# Altium integrated library ALTIUM-WE-LHMI-rev18a.IntLib: 164 symbols (part 1 of 3)
Pins are listed as number, name and electrical type; pins without a type are passive.

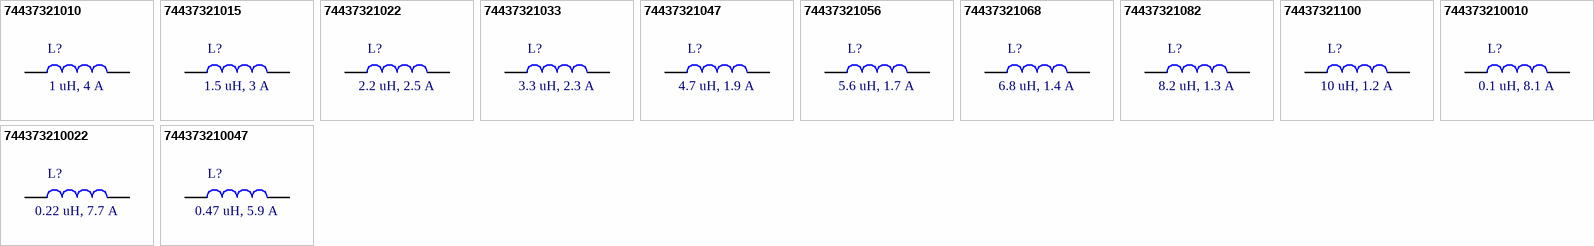
[diagram p0: symbols 74437321010 to 744373210047]

## 74437321010
designator L?, comment 1 uH, 4 A
SMT Power Inductor WE-LHMI, size 4012, 1 uH, 4 A; Part Number: 74437321010; Rated Current: 4 A; Inductance: 1 uH; DC Resistance max.: 47 mOhm; Saturation Current: 7.5 A; Self Resonant Frequency: 90 MHz; ComponentLink1Description: Manufacturer; ComponentLink1URL: http://www.we-online.de; ComponentLink2Description: Datasheet; ComponentLink2URL: https://katalog.we-online.com/pbs/datasheet/74437321010.pdf; Published Date: December 2018; Publisher: Wurth Elektronik; Size: 4012; Operating Temperature: -40 to +125 degC; Mounting Technology: SMT; Packaging: Tape and Reel
footprint WE-LHMI_4012
pins: 1, 2

## 74437321015
designator L?, comment 1.5 uH, 3 A
SMT Power Inductor WE-LHMI, size 4012, 1.5 uH, 3 A; Part Number: 74437321015; Rated Current: 3 A; Inductance: 1.5 uH; DC Resistance max.: 63.3 mOhm; Saturation Current: 4.4 A; Self Resonant Frequency: 60 MHz; ComponentLink1Description: Manufacturer; ComponentLink1URL: http://www.we-online.de; ComponentLink2Description: Datasheet; ComponentLink2URL: https://katalog.we-online.com/pbs/datasheet/74437321015.pdf; Published Date: December 2018; Publisher: Wurth Elektronik; Size: 4012; Operating Temperature: -40 to +125 degC; Mounting Technology: SMT; Packaging: Tape and Reel
footprint WE-LHMI_4012
pins: 1, 2

## 74437321022
designator L?, comment 2.2 uH, 2.5 A
SMT Power Inductor WE-LHMI, size 4012, 2.2 uH, 2.5 A; Part Number: 74437321022; Rated Current: 2.5 A; Inductance: 2.2 uH; DC Resistance max.: 80 mOhm; Saturation Current: 4.2 A; Self Resonant Frequency: 55 MHz; ComponentLink1Description: Manufacturer; ComponentLink1URL: http://www.we-online.de; ComponentLink2Description: Datasheet; ComponentLink2URL: https://katalog.we-online.com/pbs/datasheet/74437321022.pdf; Published Date: December 2018; Publisher: Wurth Elektronik; Size: 4012; Operating Temperature: -40 to +125 degC; Mounting Technology: SMT; Packaging: Tape and Reel
footprint WE-LHMI_4012
pins: 1, 2

## 74437321033
designator L?, comment 3.3 uH, 2.3 A
SMT Power Inductor WE-LHMI, size 4012, 3.3 uH, 2.3 A; Part Number: 74437321033; Rated Current: 2.3 A; Inductance: 3.3 uH; DC Resistance max.: 97 mOhm; Saturation Current: 3.9 A; Self Resonant Frequency: 40 MHz; ComponentLink1Description: Manufacturer; ComponentLink1URL: http://www.we-online.de; ComponentLink2Description: Datasheet; ComponentLink2URL: https://katalog.we-online.com/pbs/datasheet/74437321033.pdf; Published Date: December 2018; Publisher: Wurth Elektronik; Size: 4012; Operating Temperature: -40 to +125 degC; Mounting Technology: SMT; Packaging: Tape and Reel
footprint WE-LHMI_4012
pins: 1, 2

## 74437321047
designator L?, comment 4.7 uH, 1.9 A
SMT Power Inductor WE-LHMI, size 4012, 4.7 uH, 1.9 A; Part Number: 74437321047; Rated Current: 1.9 A; Inductance: 4.7 uH; DC Resistance max.: 145 mOhm; Saturation Current: 3.1 A; Self Resonant Frequency: 34 MHz; ComponentLink1Description: Manufacturer; ComponentLink1URL: http://www.we-online.de; ComponentLink2Description: Datasheet; ComponentLink2URL: https://katalog.we-online.com/pbs/datasheet/74437321047.pdf; Published Date: December 2018; Publisher: Wurth Elektronik; Size: 4012; Operating Temperature: -40 to +125 degC; Mounting Technology: SMT; Packaging: Tape and Reel
footprint WE-LHMI_4012
pins: 1, 2

## 74437321056
designator L?, comment 5.6 uH, 1.7 A
SMT Power Inductor WE-LHMI, size 4012, 5.6 uH, 1.7 A; Part Number: 74437321056; Rated Current: 1.7 A; Inductance: 5.6 uH; DC Resistance max.: 208 mOhm; Saturation Current: 2.7 A; Self Resonant Frequency: 28 MHz; ComponentLink1Description: Manufacturer; ComponentLink1URL: http://www.we-online.de; ComponentLink2Description: Datasheet; ComponentLink2URL: https://katalog.we-online.com/pbs/datasheet/74437321056.pdf; Published Date: December 2018; Publisher: Wurth Elektronik; Size: 4012; Operating Temperature: -40 to +125 degC; Mounting Technology: SMT; Packaging: Tape and Reel
footprint WE-LHMI_4012
pins: 1, 2

## 74437321068
designator L?, comment 6.8 uH, 1.4 A
SMT Power Inductor WE-LHMI, size 4012, 6.8 uH, 1.4 A; Part Number: 74437321068; Rated Current: 1.4 A; Inductance: 6.8 uH; DC Resistance max.: 360 mOhm; Saturation Current: 2.65 A; Self Resonant Frequency: 25 MHz; ComponentLink1Description: Manufacturer; ComponentLink1URL: http://www.we-online.de; ComponentLink2Description: Datasheet; ComponentLink2URL: https://katalog.we-online.com/pbs/datasheet/74437321068.pdf; Published Date: December 2018; Publisher: Wurth Elektronik; Size: 4012; Operating Temperature: -40 to +125 degC; Mounting Technology: SMT; Packaging: Tape and Reel
footprint WE-LHMI_4012
pins: 1, 2

## 74437321082
designator L?, comment 8.2 uH, 1.3 A
SMT Power Inductor WE-LHMI, size 4012, 8.2 uH, 1.3 A; Part Number: 74437321082; Rated Current: 1.3 A; Inductance: 8.2 uH; DC Resistance max.: 376 mOhm; Saturation Current: 2.4 A; Self Resonant Frequency: 24 MHz; ComponentLink1Description: Manufacturer; ComponentLink1URL: http://www.we-online.de; ComponentLink2Description: Datasheet; ComponentLink2URL: https://katalog.we-online.com/pbs/datasheet/74437321082.pdf; Published Date: December 2018; Publisher: Wurth Elektronik; Size: 4012; Operating Temperature: -40 to +125 degC; Mounting Technology: SMT; Packaging: Tape and Reel
footprint WE-LHMI_4012
pins: 1, 2

## 74437321100
designator L?, comment 10 uH, 1.2 A
SMT Power Inductor WE-LHMI, size 4012, 10 uH, 1.2 A; Part Number: 74437321100; Rated Current: 1.2 A; Inductance: 10 uH; DC Resistance max.: 463 mOhm; Saturation Current: 2.2 A; Self Resonant Frequency: 23 MHz; ComponentLink1Description: Manufacturer; ComponentLink1URL: http://www.we-online.de; ComponentLink2Description: Datasheet; ComponentLink2URL: https://katalog.we-online.com/pbs/datasheet/74437321100.pdf; Published Date: December 2018; Publisher: Wurth Elektronik; Size: 4012; Operating Temperature: -40 to +125 degC; Mounting Technology: SMT; Packaging: Tape and Reel
footprint WE-LHMI_4012
pins: 1, 2

## 744373210010
designator L?, comment 0.1 uH, 8.1 A
SMT Power Inductor WE-LHMI, size 4012, 0.1 uH, 8.1 A; Part Number: 744373210010; Rated Current: 8.1 A; Inductance: 0.1 uH; DC Resistance max.: 5.5 mOhm; Saturation Current: 24 A; Self Resonant Frequency: 365 MHz; ComponentLink1Description: Manufacturer; ComponentLink1URL: http://www.we-online.de; ComponentLink2Description: Datasheet; ComponentLink2URL: https://katalog.we-online.com/pbs/datasheet/744373210010.pdf; Published Date: December 2018; Publisher: Wurth Elektronik; Size: 4012; Operating Temperature: -40 to +125 degC; Mounting Technology: SMT; Packaging: Tape and Reel
footprint WE-LHMI_4012
pins: 1, 2

## 744373210022
designator L?, comment 0.22 uH, 7.7 A
SMT Power Inductor WE-LHMI, size 4012, 0.22 uH, 7.7 A; Part Number: 744373210022; Rated Current: 7.7 A; Inductance: 0.22 uH; DC Resistance max.: 8 mOhm; Saturation Current: 17 A; Self Resonant Frequency: 230 MHz; ComponentLink1Description: Manufacturer; ComponentLink1URL: http://www.we-online.de; ComponentLink2Description: Datasheet; ComponentLink2URL: https://katalog.we-online.com/pbs/datasheet/744373210022.pdf; Published Date: December 2018; Publisher: Wurth Elektronik; Size: 4012; Operating Temperature: -40 to +125 degC; Mounting Technology: SMT; Packaging: Tape and Reel
footprint WE-LHMI_4012
pins: 1, 2

## 744373210047
designator L?, comment 0.47 uH, 5.9 A
SMT Power Inductor WE-LHMI, size 4012, 0.47 uH, 5.9 A; Part Number: 744373210047; Rated Current: 5.9 A; Inductance: 0.47 uH; DC Resistance max.: 20 mOhm; Saturation Current: 9 A; Self Resonant Frequency: 120 MHz; ComponentLink1Description: Manufacturer; ComponentLink1URL: http://www.we-online.de; ComponentLink2Description: Datasheet; ComponentLink2URL: https://katalog.we-online.com/pbs/datasheet/744373210047.pdf; Published Date: December 2018; Publisher: Wurth Elektronik; Size: 4012; Operating Temperature: -40 to +125 degC; Mounting Technology: SMT; Packaging: Tape and Reel
footprint WE-LHMI_4012
pins: 1, 2


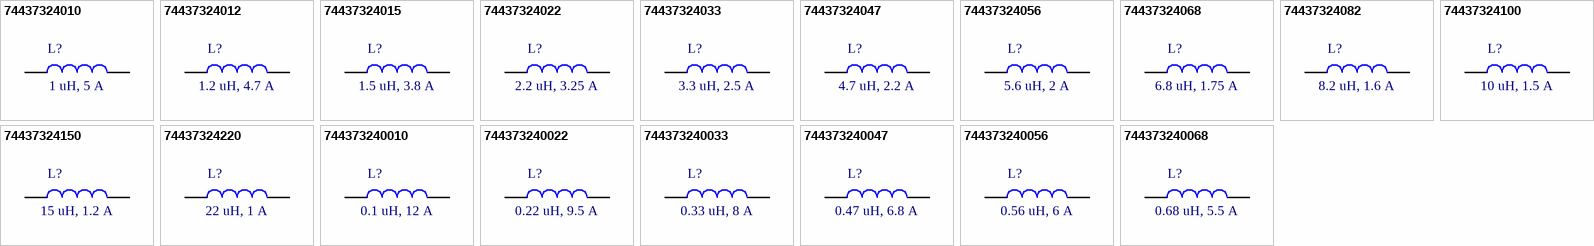
[diagram p1: symbols 74437324010 to 744373240068]

## 74437324010
designator L?, comment 1 uH, 5 A
SMT Power Inductor WE-LHMI, size 4020, 1 uH, 5 A; Part Number: 74437324010; Rated Current: 5 A; Inductance: 1 uH; DC Resistance max.: 27 mOhm; Saturation Current: 9 A; Self Resonant Frequency: 89 MHz; ComponentLink1Description: Manufacturer; ComponentLink1URL: http://www.we-online.de; ComponentLink2Description: Datasheet; ComponentLink2URL: https://katalog.we-online.com/pbs/datasheet/74437324010.pdf; Published Date: December 2018; Publisher: Wurth Elektronik; Size: 4020; Operating Temperature: -40 to +125 degC; Mounting Technology: SMT; Packaging: Tape and Reel
footprint WE-LHMI_4020
pins: 1, 2

## 74437324012
designator L?, comment 1.2 uH, 4.7 A
SMT Power Inductor WE-LHMI, size 4020, 1.2 uH, 4.7 A; Part Number: 74437324012; Rated Current: 4.7 A; Inductance: 1.2 uH; DC Resistance max.: 30 mOhm; Saturation Current: 8.5 A; Self Resonant Frequency: 71 MHz; ComponentLink1Description: Manufacturer; ComponentLink1URL: http://www.we-online.de; ComponentLink2Description: Datasheet; ComponentLink2URL: https://katalog.we-online.com/pbs/datasheet/74437324012.pdf; Published Date: December 2018; Publisher: Wurth Elektronik; Size: 4020; Operating Temperature: -40 to +125 degC; Mounting Technology: SMT; Packaging: Tape and Reel
footprint WE-LHMI_4020
pins: 1, 2

## 74437324015
designator L?, comment 1.5 uH, 3.8 A
SMT Power Inductor WE-LHMI, size 4020, 1.5 uH, 3.8 A; Part Number: 74437324015; Rated Current: 3.8 A; Inductance: 1.5 uH; DC Resistance max.: 42 mOhm; Saturation Current: 8 A; Self Resonant Frequency: 64 MHz; ComponentLink1Description: Manufacturer; ComponentLink1URL: http://www.we-online.de; ComponentLink2Description: Datasheet; ComponentLink2URL: https://katalog.we-online.com/pbs/datasheet/74437324015.pdf; Published Date: December 2018; Publisher: Wurth Elektronik; Size: 4020; Operating Temperature: -40 to +125 degC; Mounting Technology: SMT; Packaging: Tape and Reel
footprint WE-LHMI_4020
pins: 1, 2

## 74437324022
designator L?, comment 2.2 uH, 3.25 A
SMT Power Inductor WE-LHMI, size 4020, 2.2 uH, 3.25 A; Part Number: 74437324022; Rated Current: 3.25 A; Inductance: 2.2 uH; DC Resistance max.: 61 mOhm; Saturation Current: 6.5 A; Self Resonant Frequency: 49 MHz; ComponentLink1Description: Manufacturer; ComponentLink1URL: http://www.we-online.de; ComponentLink2Description: Datasheet; ComponentLink2URL: https://katalog.we-online.com/pbs/datasheet/74437324022.pdf; Published Date: December 2018; Publisher: Wurth Elektronik; Size: 4020; Operating Temperature: -40 to +125 degC; Mounting Technology: SMT; Packaging: Tape and Reel
footprint WE-LHMI_4020
pins: 1, 2

## 74437324033
designator L?, comment 3.3 uH, 2.5 A
SMT Power Inductor WE-LHMI, size 4020, 3.3 uH, 2.5 A; Part Number: 74437324033; Rated Current: 2.5 A; Inductance: 3.3 uH; DC Resistance max.: 76 mOhm; Saturation Current: 4.2 A; Self Resonant Frequency: 40 MHz; ComponentLink1Description: Manufacturer; ComponentLink1URL: http://www.we-online.de; ComponentLink2Description: Datasheet; ComponentLink2URL: https://katalog.we-online.com/pbs/datasheet/74437324033.pdf; Published Date: December 2018; Publisher: Wurth Elektronik; Size: 4020; Operating Temperature: -40 to +125 degC; Mounting Technology: SMT; Packaging: Tape and Reel
footprint WE-LHMI_4020
pins: 1, 2

## 74437324047
designator L?, comment 4.7 uH, 2.2 A
SMT Power Inductor WE-LHMI, size 4020, 4.7 uH, 2.2 A; Part Number: 74437324047; Rated Current: 2.2 A; Inductance: 4.7 uH; DC Resistance max.: 105 mOhm; Saturation Current: 4 A; Self Resonant Frequency: 31 MHz; ComponentLink1Description: Manufacturer; ComponentLink1URL: http://www.we-online.de; ComponentLink2Description: Datasheet; ComponentLink2URL: https://katalog.we-online.com/pbs/datasheet/74437324047.pdf; Published Date: December 2018; Publisher: Wurth Elektronik; Size: 4020; Operating Temperature: -40 to +125 degC; Mounting Technology: SMT; Packaging: Tape and Reel
footprint WE-LHMI_4020
pins: 1, 2

## 74437324056
designator L?, comment 5.6 uH, 2 A
SMT Power Inductor WE-LHMI, size 4020, 5.6 uH, 2 A; Part Number: 74437324056; Rated Current: 2 A; Inductance: 5.6 uH; DC Resistance max.: 125 mOhm; Saturation Current: 3.8 A; Self Resonant Frequency: 30 MHz; ComponentLink1Description: Manufacturer; ComponentLink1URL: http://www.we-online.de; ComponentLink2Description: Datasheet; ComponentLink2URL: https://katalog.we-online.com/pbs/datasheet/74437324056.pdf; Published Date: December 2018; Publisher: Wurth Elektronik; Size: 4020; Operating Temperature: -40 to +125 degC; Mounting Technology: SMT; Packaging: Tape and Reel
footprint WE-LHMI_4020
pins: 1, 2

## 74437324068
designator L?, comment 6.8 uH, 1.75 A
SMT Power Inductor WE-LHMI, size 4020, 6.8 uH, 1.75 A; Part Number: 74437324068; Rated Current: 1.75 A; Inductance: 6.8 uH; DC Resistance max.: 172 mOhm; Saturation Current: 3.5 A; Self Resonant Frequency: 29 MHz; ComponentLink1Description: Manufacturer; ComponentLink1URL: http://www.we-online.de; ComponentLink2Description: Datasheet; ComponentLink2URL: https://katalog.we-online.com/pbs/datasheet/74437324068.pdf; Published Date: December 2018; Publisher: Wurth Elektronik; Size: 4020; Operating Temperature: -40 to +125 degC; Mounting Technology: SMT; Packaging: Tape and Reel
footprint WE-LHMI_4020
pins: 1, 2

## 74437324082
designator L?, comment 8.2 uH, 1.6 A
SMT Power Inductor WE-LHMI, size 4020, 8.2 uH, 1.6 A; Part Number: 74437324082; Rated Current: 1.6 A; Inductance: 8.2 uH; DC Resistance max.: 180 mOhm; Saturation Current: 2.8 A; Self Resonant Frequency: 22 MHz; ComponentLink1Description: Manufacturer; ComponentLink1URL: http://www.we-online.de; ComponentLink2Description: Datasheet; ComponentLink2URL: https://katalog.we-online.com/pbs/datasheet/74437324082.pdf; Published Date: December 2018; Publisher: Wurth Elektronik; Size: 4020; Operating Temperature: -40 to +125 degC; Mounting Technology: SMT; Packaging: Tape and Reel
footprint WE-LHMI_4020
pins: 1, 2

## 74437324100
designator L?, comment 10 uH, 1.5 A
SMT Power Inductor WE-LHMI, size 4020, 10 uH, 1.5 A; Part Number: 74437324100; Rated Current: 1.5 A; Inductance: 10 uH; DC Resistance max.: 243 mOhm; Saturation Current: 2.4 A; Self Resonant Frequency: 23 MHz; ComponentLink1Description: Manufacturer; ComponentLink1URL: http://www.we-online.de; ComponentLink2Description: Datasheet; ComponentLink2URL: https://katalog.we-online.com/pbs/datasheet/74437324100.pdf; Published Date: December 2018; Publisher: Wurth Elektronik; Size: 4020; Operating Temperature: -40 to +125 degC; Mounting Technology: SMT; Packaging: Tape and Reel
footprint WE-LHMI_4020
pins: 1, 2

## 74437324150
designator L?, comment 15 uH, 1.2 A
SMT Power Inductor WE-LHMI, size 4020, 15 uH, 1.2 A; Part Number: 74437324150; Rated Current: 1.2 A; Inductance: 15 uH; DC Resistance max.: 374 mOhm; Saturation Current: 2.1 A; Self Resonant Frequency: 17 MHz; ComponentLink1Description: Manufacturer; ComponentLink1URL: http://www.we-online.de; ComponentLink2Description: Datasheet; ComponentLink2URL: https://katalog.we-online.com/pbs/datasheet/74437324150.pdf; Published Date: December 2018; Publisher: Wurth Elektronik; Size: 4020; Operating Temperature: -40 to +125 degC; Mounting Technology: SMT; Packaging: Tape and Reel
footprint WE-LHMI_4020
pins: 1, 2

## 74437324220
designator L?, comment 22 uH, 1 A
SMT Power Inductor WE-LHMI, size 4020, 22 uH, 1 A; Part Number: 74437324220; Rated Current: 1 A; Inductance: 22 uH; DC Resistance max.: 500 mOhm; Saturation Current: 2 A; Self Resonant Frequency: 14 MHz; ComponentLink1Description: Manufacturer; ComponentLink1URL: http://www.we-online.de; ComponentLink2Description: Datasheet; ComponentLink2URL: https://katalog.we-online.com/pbs/datasheet/74437324220.pdf; Published Date: December 2018; Publisher: Wurth Elektronik; Size: 4020; Operating Temperature: -40 to +125 degC; Mounting Technology: SMT; Packaging: Tape and Reel
footprint WE-LHMI_4020
pins: 1, 2

## 744373240010
designator L?, comment 0.1 uH, 12 A
SMT Power Inductor WE-LHMI, size 4020, 0.1 uH, 12 A; Part Number: 744373240010; Rated Current: 12 A; Inductance: 0.1 uH; DC Resistance max.: 4 mOhm; Saturation Current: 30 A; Self Resonant Frequency: 323 MHz; ComponentLink1Description: Manufacturer; ComponentLink1URL: http://www.we-online.de; ComponentLink2Description: Datasheet; ComponentLink2URL: https://katalog.we-online.com/pbs/datasheet/744373240010.pdf; Published Date: December 2018; Publisher: Wurth Elektronik; Size: 4020; Operating Temperature: -40 to +125 degC; Mounting Technology: SMT; Packaging: Tape and Reel
footprint WE-LHMI_4020
pins: 1, 2

## 744373240022
designator L?, comment 0.22 uH, 9.5 A
SMT Power Inductor WE-LHMI, size 4020, 0.22 uH, 9.5 A; Part Number: 744373240022; Rated Current: 9.5 A; Inductance: 0.22 uH; DC Resistance max.: 7.3 mOhm; Saturation Current: 17 A; Self Resonant Frequency: 195 MHz; ComponentLink1Description: Manufacturer; ComponentLink1URL: http://www.we-online.de; ComponentLink2Description: Datasheet; ComponentLink2URL: https://katalog.we-online.com/pbs/datasheet/744373240022.pdf; Published Date: December 2018; Publisher: Wurth Elektronik; Size: 4020; Operating Temperature: -40 to +125 degC; Mounting Technology: SMT; Packaging: Tape and Reel
footprint WE-LHMI_4020
pins: 1, 2

## 744373240033
designator L?, comment 0.33 uH, 8 A
SMT Power Inductor WE-LHMI, size 4020, 0.33 uH, 8 A; Part Number: 744373240033; Rated Current: 8 A; Inductance: 0.33 uH; DC Resistance max.: 8.6 mOhm; Saturation Current: 16.5 A; Self Resonant Frequency: 143 MHz; ComponentLink1Description: Manufacturer; ComponentLink1URL: http://www.we-online.de; ComponentLink2Description: Datasheet; ComponentLink2URL: https://katalog.we-online.com/pbs/datasheet/744373240033.pdf; Published Date: December 2018; Publisher: Wurth Elektronik; Size: 4020; Operating Temperature: -40 to +125 degC; Mounting Technology: SMT; Packaging: Tape and Reel
footprint WE-LHMI_4020
pins: 1, 2

## 744373240047
designator L?, comment 0.47 uH, 6.8 A
SMT Power Inductor WE-LHMI, size 4020, 0.47 uH, 6.8 A; Part Number: 744373240047; Rated Current: 6.8 A; Inductance: 0.47 uH; DC Resistance max.: 14 mOhm; Saturation Current: 14.5 A; Self Resonant Frequency: 122 MHz; ComponentLink1Description: Manufacturer; ComponentLink1URL: http://www.we-online.de; ComponentLink2Description: Datasheet; ComponentLink2URL: https://katalog.we-online.com/pbs/datasheet/744373240047.pdf; Published Date: December 2018; Publisher: Wurth Elektronik; Size: 4020; Operating Temperature: -40 to +125 degC; Mounting Technology: SMT; Packaging: Tape and Reel
footprint WE-LHMI_4020
pins: 1, 2

## 744373240056
designator L?, comment 0.56 uH, 6 A
SMT Power Inductor WE-LHMI, size 4020, 0.56 uH, 6 A; Part Number: 744373240056; Rated Current: 6 A; Inductance: 0.56 uH; DC Resistance max.: 16 mOhm; Saturation Current: 10.5 A; Self Resonant Frequency: 104 MHz; ComponentLink1Description: Manufacturer; ComponentLink1URL: http://www.we-online.de; ComponentLink2Description: Datasheet; ComponentLink2URL: https://katalog.we-online.com/pbs/datasheet/744373240056.pdf; Published Date: December 2018; Publisher: Wurth Elektronik; Size: 4020; Operating Temperature: -40 to +125 degC; Mounting Technology: SMT; Packaging: Tape and Reel
footprint WE-LHMI_4020
pins: 1, 2

## 744373240068
designator L?, comment 0.68 uH, 5.5 A
SMT Power Inductor WE-LHMI, size 4020, 0.68 uH, 5.5 A; Part Number: 744373240068; Rated Current: 5.5 A; Inductance: 0.68 uH; DC Resistance max.: 19 mOhm; Saturation Current: 10 A; Self Resonant Frequency: 90 MHz; ComponentLink1Description: Manufacturer; ComponentLink1URL: http://www.we-online.de; ComponentLink2Description: Datasheet; ComponentLink2URL: https://katalog.we-online.com/pbs/datasheet/744373240068.pdf; Published Date: December 2018; Publisher: Wurth Elektronik; Size: 4020; Operating Temperature: -40 to +125 degC; Mounting Technology: SMT; Packaging: Tape and Reel
footprint WE-LHMI_4020
pins: 1, 2


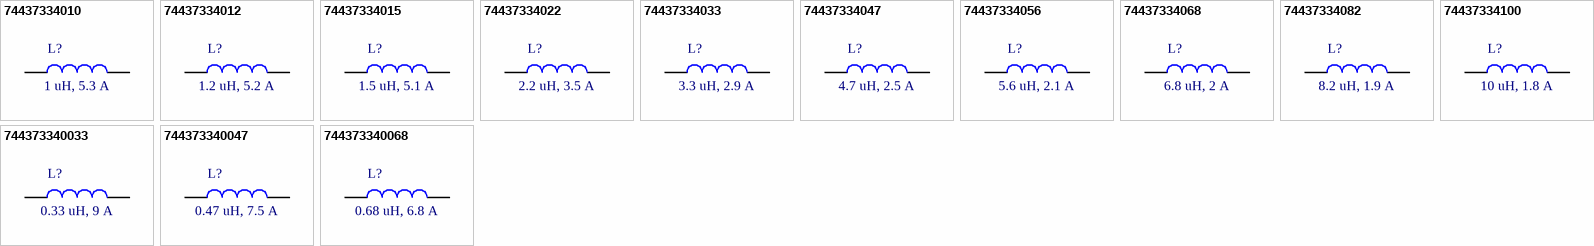
[diagram p2: symbols 74437334010 to 744373340068]

## 74437334010
designator L?, comment 1 uH, 5.3 A
SMT Power Inductor WE-LHMI, size 5020, 1 uH, 5.3 A; Part Number: 74437334010; Rated Current: 5.3 A; Inductance: 1 uH; DC Resistance max.: 20 mOhm; Saturation Current: 13.9 A; Self Resonant Frequency: 65 MHz; ComponentLink1Description: Manufacturer; ComponentLink1URL: http://www.we-online.de; ComponentLink2Description: Datasheet; ComponentLink2URL: https://katalog.we-online.com/pbs/datasheet/74437334010.pdf; Published Date: December 2018; Publisher: Wurth Elektronik; Size: 5020; Operating Temperature: -40 to +125 degC; Mounting Technology: SMT; Packaging: Tape and Reel
footprint WE-LHMI_5020
pins: 1, 2

## 74437334012
designator L?, comment 1.2 uH, 5.2 A
SMT Power Inductor WE-LHMI, size 5020, 1.2 uH, 5.2 A; Part Number: 74437334012; Rated Current: 5.2 A; Inductance: 1.2 uH; DC Resistance max.: 28 mOhm; Saturation Current: 11.3 A; Self Resonant Frequency: 60 MHz; ComponentLink1Description: Manufacturer; ComponentLink1URL: http://www.we-online.de; ComponentLink2Description: Datasheet; ComponentLink2URL: https://katalog.we-online.com/pbs/datasheet/74437334012.pdf; Published Date: December 2018; Publisher: Wurth Elektronik; Size: 5020; Operating Temperature: -40 to +125 degC; Mounting Technology: SMT; Packaging: Tape and Reel
footprint WE-LHMI_5020
pins: 1, 2

## 74437334015
designator L?, comment 1.5 uH, 5.1 A
SMT Power Inductor WE-LHMI, size 5020, 1.5 uH, 5.1 A; Part Number: 74437334015; Rated Current: 5.1 A; Inductance: 1.5 uH; DC Resistance max.: 30.5 mOhm; Saturation Current: 10 A; Self Resonant Frequency: 50 MHz; ComponentLink1Description: Manufacturer; ComponentLink1URL: http://www.we-online.de; ComponentLink2Description: Datasheet; ComponentLink2URL: https://katalog.we-online.com/pbs/datasheet/74437334015.pdf; Published Date: December 2018; Publisher: Wurth Elektronik; Size: 5020; Operating Temperature: -40 to +125 degC; Mounting Technology: SMT; Packaging: Tape and Reel
footprint WE-LHMI_5020
pins: 1, 2

## 74437334022
designator L?, comment 2.2 uH, 3.5 A
SMT Power Inductor WE-LHMI, size 5020, 2.2 uH, 3.5 A; Part Number: 74437334022; Rated Current: 3.5 A; Inductance: 2.2 uH; DC Resistance max.: 50 mOhm; Saturation Current: 9.4 A; Self Resonant Frequency: 46 MHz; ComponentLink1Description: Manufacturer; ComponentLink1URL: http://www.we-online.de; ComponentLink2Description: Datasheet; ComponentLink2URL: https://katalog.we-online.com/pbs/datasheet/74437334022.pdf; Published Date: December 2018; Publisher: Wurth Elektronik; Size: 5020; Operating Temperature: -40 to +125 degC; Mounting Technology: SMT; Packaging: Tape and Reel
footprint WE-LHMI_5020
pins: 1, 2

## 74437334033
designator L?, comment 3.3 uH, 2.9 A
SMT Power Inductor WE-LHMI, size 5020, 3.3 uH, 2.9 A; Part Number: 74437334033; Rated Current: 2.9 A; Inductance: 3.3 uH; DC Resistance max.: 76 mOhm; Saturation Current: 7.7 A; Self Resonant Frequency: 35 MHz; ComponentLink1Description: Manufacturer; ComponentLink1URL: http://www.we-online.de; ComponentLink2Description: Datasheet; ComponentLink2URL: https://katalog.we-online.com/pbs/datasheet/74437334033.pdf; Published Date: December 2018; Publisher: Wurth Elektronik; Size: 5020; Operating Temperature: -40 to +125 degC; Mounting Technology: SMT; Packaging: Tape and Reel
footprint WE-LHMI_5020
pins: 1, 2

## 74437334047
designator L?, comment 4.7 uH, 2.5 A
SMT Power Inductor WE-LHMI, size 5020, 4.7 uH, 2.5 A; Part Number: 74437334047; Rated Current: 2.5 A; Inductance: 4.7 uH; DC Resistance max.: 116 mOhm; Saturation Current: 6 A; Self Resonant Frequency: 27 MHz; ComponentLink1Description: Manufacturer; ComponentLink1URL: http://www.we-online.de; ComponentLink2Description: Datasheet; ComponentLink2URL: https://katalog.we-online.com/pbs/datasheet/74437334047.pdf; Published Date: December 2018; Publisher: Wurth Elektronik; Size: 5020; Operating Temperature: -40 to +125 degC; Mounting Technology: SMT; Packaging: Tape and Reel
footprint WE-LHMI_5020
pins: 1, 2

## 74437334056
designator L?, comment 5.6 uH, 2.1 A
SMT Power Inductor WE-LHMI, size 5020, 5.6 uH, 2.1 A; Part Number: 74437334056; Rated Current: 2.1 A; Inductance: 5.6 uH; DC Resistance max.: 122 mOhm; Saturation Current: 5.5 A; Self Resonant Frequency: 21 MHz; ComponentLink1Description: Manufacturer; ComponentLink1URL: http://www.we-online.de; ComponentLink2Description: Datasheet; ComponentLink2URL: https://katalog.we-online.com/pbs/datasheet/74437334056.pdf; Published Date: December 2018; Publisher: Wurth Elektronik; Size: 5020; Operating Temperature: -40 to +125 degC; Mounting Technology: SMT; Packaging: Tape and Reel
footprint WE-LHMI_5020
pins: 1, 2

## 74437334068
designator L?, comment 6.8 uH, 2 A
SMT Power Inductor WE-LHMI, size 5020, 6.8 uH, 2 A; Part Number: 74437334068; Rated Current: 2 A; Inductance: 6.8 uH; DC Resistance max.: 150 mOhm; Saturation Current: 4.6 A; Self Resonant Frequency: 20.5 MHz; ComponentLink1Description: Manufacturer; ComponentLink1URL: http://www.we-online.de; ComponentLink2Description: Datasheet; ComponentLink2URL: https://katalog.we-online.com/pbs/datasheet/74437334068.pdf; Published Date: December 2018; Publisher: Wurth Elektronik; Size: 5020; Operating Temperature: -40 to +125 degC; Mounting Technology: SMT; Packaging: Tape and Reel
footprint WE-LHMI_5020
pins: 1, 2

## 74437334082
designator L?, comment 8.2 uH, 1.9 A
SMT Power Inductor WE-LHMI, size 5020, 8.2 uH, 1.9 A; Part Number: 74437334082; Rated Current: 1.9 A; Inductance: 8.2 uH; DC Resistance max.: 171 mOhm; Saturation Current: 4.5 A; Self Resonant Frequency: 20 MHz; ComponentLink1Description: Manufacturer; ComponentLink1URL: http://www.we-online.de; ComponentLink2Description: Datasheet; ComponentLink2URL: https://katalog.we-online.com/pbs/datasheet/74437334082.pdf; Published Date: December 2018; Publisher: Wurth Elektronik; Size: 5020; Operating Temperature: -40 to +125 degC; Mounting Technology: SMT; Packaging: Tape and Reel
footprint WE-LHMI_5020
pins: 1, 2

## 74437334100
designator L?, comment 10 uH, 1.8 A
SMT Power Inductor WE-LHMI, size 5020, 10 uH, 1.8 A; Part Number: 74437334100; Rated Current: 1.8 A; Inductance: 10 uH; DC Resistance max.: 199 mOhm; Saturation Current: 4 A; Self Resonant Frequency: 16 MHz; ComponentLink1Description: Manufacturer; ComponentLink1URL: http://www.we-online.de; ComponentLink2Description: Datasheet; ComponentLink2URL: https://katalog.we-online.com/pbs/datasheet/74437334100.pdf; Published Date: December 2018; Publisher: Wurth Elektronik; Size: 5020; Operating Temperature: -40 to +125 degC; Mounting Technology: SMT; Packaging: Tape and Reel
footprint WE-LHMI_5020
pins: 1, 2

## 744373340033
designator L?, comment 0.33 uH, 9 A
SMT Power Inductor WE-LHMI, size 5020, 0.33 uH, 9 A; Part Number: 744373340033; Rated Current: 9 A; Inductance: 0.33 uH; DC Resistance max.: 7.3 mOhm; Saturation Current: 22 A; Self Resonant Frequency: 100 MHz; ComponentLink1Description: Manufacturer; ComponentLink1URL: http://www.we-online.de; ComponentLink2Description: Datasheet; ComponentLink2URL: https://katalog.we-online.com/pbs/datasheet/744373340033.pdf; Published Date: December 2018; Publisher: Wurth Elektronik; Size: 5020; Operating Temperature: -40 to +125 degC; Mounting Technology: SMT; Packaging: Tape and Reel
footprint WE-LHMI_5020
pins: 1, 2

## 744373340047
designator L?, comment 0.47 uH, 7.5 A
SMT Power Inductor WE-LHMI, size 5020, 0.47 uH, 7.5 A; Part Number: 744373340047; Rated Current: 7.5 A; Inductance: 0.47 uH; DC Resistance max.: 8.6 mOhm; Saturation Current: 15 A; Self Resonant Frequency: 95 MHz; ComponentLink1Description: Manufacturer; ComponentLink1URL: http://www.we-online.de; ComponentLink2Description: Datasheet; ComponentLink2URL: https://katalog.we-online.com/pbs/datasheet/744373340047.pdf; Published Date: December 2018; Publisher: Wurth Elektronik; Size: 5020; Operating Temperature: -40 to +125 degC; Mounting Technology: SMT; Packaging: Tape and Reel
footprint WE-LHMI_5020
pins: 1, 2

## 744373340068
designator L?, comment 0.68 uH, 6.8 A
SMT Power Inductor WE-LHMI, size 5020, 0.68 uH, 6.8 A; Part Number: 744373340068; Rated Current: 6.8 A; Inductance: 0.68 uH; DC Resistance max.: 12.4 mOhm; Saturation Current: 14.5 A; Self Resonant Frequency: 90 MHz; ComponentLink1Description: Manufacturer; ComponentLink1URL: http://www.we-online.de; ComponentLink2Description: Datasheet; ComponentLink2URL: https://katalog.we-online.com/pbs/datasheet/744373340068.pdf; Published Date: December 2018; Publisher: Wurth Elektronik; Size: 5020; Operating Temperature: -40 to +125 degC; Mounting Technology: SMT; Packaging: Tape and Reel
footprint WE-LHMI_5020
pins: 1, 2


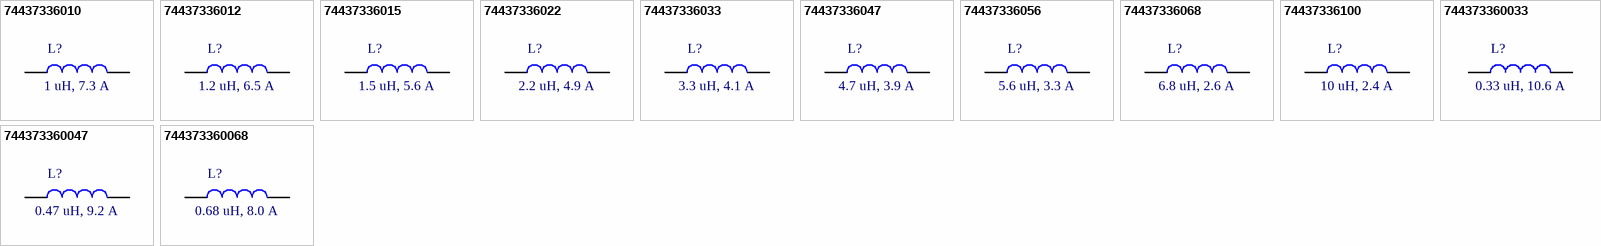
[diagram p3: symbols 74437336010 to 744373360068]

## 74437336010
designator L?, comment 1 uH, 7.3 A
SMT Power Inductor WE-LHMI, size 5030, 1 uH, 7.3 A; Part Number: 74437336010; Rated Current: 7.3 A; Inductance: 1 uH; DC Resistance max.: 14 mOhm; Saturation Current: 11.2 A; Self Resonant Frequency: 60 MHz; ComponentLink1Description: Manufacturer; ComponentLink1URL: http://www.we-online.de; ComponentLink2Description: Datasheet; ComponentLink2URL: https://katalog.we-online.com/pbs/datasheet/74437336010.pdf; Published Date: December 2018; Publisher: Wurth Elektronik; Size: 5030; Operating Temperature: -40 to +125 degC; Mounting Technology: SMT; Packaging: Tape and Reel
footprint WE-LHMI_5030
pins: 1, 2

## 74437336012
designator L?, comment 1.2 uH, 6.5 A
SMT Power Inductor WE-LHMI, size 5030, 1.2 uH, 6.5 A; Part Number: 74437336012; Rated Current: 6.5 A; Inductance: 1.2 uH; DC Resistance max.: 16 mOhm; Saturation Current: 11.1 A; Self Resonant Frequency: 50 MHz; ComponentLink1Description: Manufacturer; ComponentLink1URL: http://www.we-online.de; ComponentLink2Description: Datasheet; ComponentLink2URL: https://katalog.we-online.com/pbs/datasheet/74437336012.pdf; Published Date: December 2018; Publisher: Wurth Elektronik; Size: 5030; Operating Temperature: -40 to +125 degC; Mounting Technology: SMT; Packaging: Tape and Reel
footprint WE-LHMI_5030
pins: 1, 2

## 74437336015
designator L?, comment 1.5 uH, 5.6 A
SMT Power Inductor WE-LHMI, size 5030, 1.5 uH, 5.6 A; Part Number: 74437336015; Rated Current: 5.6 A; Inductance: 1.5 uH; DC Resistance max.: 25 mOhm; Saturation Current: 11 A; Self Resonant Frequency: 45 MHz; ComponentLink1Description: Manufacturer; ComponentLink1URL: http://www.we-online.de; ComponentLink2Description: Datasheet; ComponentLink2URL: https://katalog.we-online.com/pbs/datasheet/74437336015.pdf; Published Date: December 2018; Publisher: Wurth Elektronik; Size: 5030; Operating Temperature: -40 to +125 degC; Mounting Technology: SMT; Packaging: Tape and Reel
footprint WE-LHMI_5030
pins: 1, 2

## 74437336022
designator L?, comment 2.2 uH, 4.9 A
SMT Power Inductor WE-LHMI, size 5030, 2.2 uH, 4.9 A; Part Number: 74437336022; Rated Current: 4.9 A; Inductance: 2.2 uH; DC Resistance max.: 35 mOhm; Saturation Current: 10.8 A; Self Resonant Frequency: 42 MHz; ComponentLink1Description: Manufacturer; ComponentLink1URL: http://www.we-online.de; ComponentLink2Description: Datasheet; ComponentLink2URL: https://katalog.we-online.com/pbs/datasheet/74437336022.pdf; Published Date: December 2018; Publisher: Wurth Elektronik; Size: 5030; Operating Temperature: -40 to +125 degC; Mounting Technology: SMT; Packaging: Tape and Reel
footprint WE-LHMI_5030
pins: 1, 2

## 74437336033
designator L?, comment 3.3 uH, 4.1 A
SMT Power Inductor WE-LHMI, size 5030, 3.3 uH, 4.1 A; Part Number: 74437336033; Rated Current: 4.1 A; Inductance: 3.3 uH; DC Resistance max.: 38 mOhm; Saturation Current: 8.4 A; Self Resonant Frequency: 27 MHz; ComponentLink1Description: Manufacturer; ComponentLink1URL: http://www.we-online.de; ComponentLink2Description: Datasheet; ComponentLink2URL: https://katalog.we-online.com/pbs/datasheet/74437336033.pdf; Published Date: December 2018; Publisher: Wurth Elektronik; Size: 5030; Operating Temperature: -40 to +125 degC; Mounting Technology: SMT; Packaging: Tape and Reel
footprint WE-LHMI_5030
pins: 1, 2

## 74437336047
designator L?, comment 4.7 uH, 3.9 A
SMT Power Inductor WE-LHMI, size 5030, 4.7 uH, 3.9 A; Part Number: 74437336047; Rated Current: 3.9 A; Inductance: 4.7 uH; DC Resistance max.: 53 mOhm; Saturation Current: 5.9 A; Self Resonant Frequency: 25 MHz; ComponentLink1Description: Manufacturer; ComponentLink1URL: http://www.we-online.de; ComponentLink2Description: Datasheet; ComponentLink2URL: https://katalog.we-online.com/pbs/datasheet/74437336047.pdf; Published Date: December 2018; Publisher: Wurth Elektronik; Size: 5030; Operating Temperature: -40 to +125 degC; Mounting Technology: SMT; Packaging: Tape and Reel
footprint WE-LHMI_5030
pins: 1, 2

## 74437336056
designator L?, comment 5.6 uH, 3.3 A
SMT Power Inductor WE-LHMI, size 5030, 5.6 uH, 3.3 A; Part Number: 74437336056; Rated Current: 3.3 A; Inductance: 5.6 uH; DC Resistance max.: 63 mOhm; Saturation Current: 5.7 A; Self Resonant Frequency: 22 MHz; ComponentLink1Description: Manufacturer; ComponentLink1URL: http://www.we-online.de; ComponentLink2Description: Datasheet; ComponentLink2URL: https://katalog.we-online.com/pbs/datasheet/74437336056.pdf; Published Date: December 2018; Publisher: Wurth Elektronik; Size: 5030; Operating Temperature: -40 to +125 degC; Mounting Technology: SMT; Packaging: Tape and Reel
footprint WE-LHMI_5030
pins: 1, 2

## 74437336068
designator L?, comment 6.8 uH, 2.6 A
SMT Power Inductor WE-LHMI, size 5030, 6.8 uH, 2.6 A; Part Number: 74437336068; Rated Current: 2.6 A; Inductance: 6.8 uH; DC Resistance max.: 76.2 mOhm; Saturation Current: 4.5 A; Self Resonant Frequency: 20 MHz; ComponentLink1Description: Manufacturer; ComponentLink1URL: http://www.we-online.de; ComponentLink2Description: Datasheet; ComponentLink2URL: https://katalog.we-online.com/pbs/datasheet/74437336068.pdf; Published Date: December 2018; Publisher: Wurth Elektronik; Size: 5030; Operating Temperature: -40 to +125 degC; Mounting Technology: SMT; Packaging: Tape and Reel
footprint WE-LHMI_5030
pins: 1, 2

## 74437336100
designator L?, comment 10 uH, 2.4 A
SMT Power Inductor WE-LHMI, size 5030, 10 uH, 2.4 A; Part Number: 74437336100; Rated Current: 2.4 A; Inductance: 10 uH; DC Resistance max.: 128 mOhm; Saturation Current: 4.2 A; Self Resonant Frequency: 16 MHz; ComponentLink1Description: Manufacturer; ComponentLink1URL: http://www.we-online.de; ComponentLink2Description: Datasheet; ComponentLink2URL: https://katalog.we-online.com/pbs/datasheet/74437336100.pdf; Published Date: December 2018; Publisher: Wurth Elektronik; Size: 5030; Operating Temperature: -40 to +125 degC; Mounting Technology: SMT; Packaging: Tape and Reel
footprint WE-LHMI_5030
pins: 1, 2

## 744373360033
designator L?, comment 0.33 uH, 10.6 A
SMT Power Inductor WE-LHMI, size 5030, 0.33 uH, 10.6 A; Part Number: 744373360033; Rated Current: 10.6 A; Inductance: 0.33 uH; DC Resistance max.: 5 mOhm; Saturation Current: 22.5 A; Self Resonant Frequency: 120 MHz; ComponentLink1Description: Manufacturer; ComponentLink1URL: http://www.we-online.de; ComponentLink2Description: Datasheet; ComponentLink2URL: https://katalog.we-online.com/pbs/datasheet/744373360033.pdf; Published Date: December 2018; Publisher: Wurth Elektronik; Size: 5030; Operating Temperature: -40 to +125 degC; Mounting Technology: SMT; Packaging: Tape and Reel
footprint WE-LHMI_5030
pins: 1, 2

## 744373360047
designator L?, comment 0.47 uH, 9.2 A
SMT Power Inductor WE-LHMI, size 5030, 0.47 uH, 9.2 A; Part Number: 744373360047; Rated Current: 9.2 A; Inductance: 0.47 uH; DC Resistance max.: 7.4 mOhm; Saturation Current: 16.5 A; Self Resonant Frequency: 100 MHz; ComponentLink1Description: Manufacturer; ComponentLink1URL: http://www.we-online.de; ComponentLink2Description: Datasheet; ComponentLink2URL: https://katalog.we-online.com/pbs/datasheet/744373360047.pdf; Published Date: December 2018; Publisher: Wurth Elektronik; Size: 5030; Operating Temperature: -40 to +125 degC; Mounting Technology: SMT; Packaging: Tape and Reel
footprint WE-LHMI_5030
pins: 1, 2

## 744373360068
designator L?, comment 0.68 uH, 8.0 A
SMT Power Inductor WE-LHMI, size 5030, 0.68 uH, 8.0 A; Part Number: 744373360068; Rated Current: 8.0 A; Inductance: 0.68 uH; DC Resistance max.: 12 mOhm; Saturation Current: 15 A; Self Resonant Frequency: 90 MHz; ComponentLink1Description: Manufacturer; ComponentLink1URL: http://www.we-online.de; ComponentLink2Description: Datasheet; ComponentLink2URL: https://katalog.we-online.com/pbs/datasheet/744373360068.pdf; Published Date: December 2018; Publisher: Wurth Elektronik; Size: 5030; Operating Temperature: -40 to +125 degC; Mounting Technology: SMT; Packaging: Tape and Reel
footprint WE-LHMI_5030
pins: 1, 2


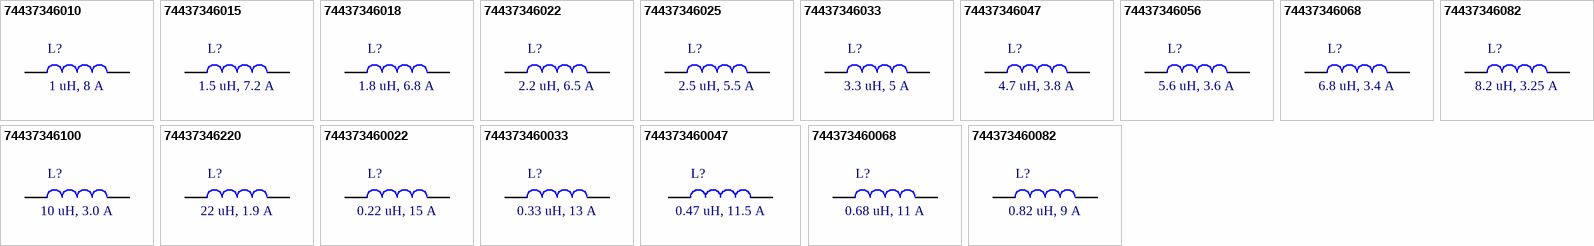
[diagram p4: symbols 74437346010 to 744373460082]

## 74437346010
designator L?, comment 1 uH, 8 A
SMT Power Inductor WE-LHMI, size 7030, 1 uH, 8 A; Part Number: 74437346010; Rated Current: 8 A; Inductance: 1 uH; DC Resistance max.: 10 mOhm; Saturation Current: 22 A; Self Resonant Frequency: 54 MHz; ComponentLink1Description: Manufacturer; ComponentLink1URL: http://www.we-online.de; ComponentLink2Description: Datasheet; ComponentLink2URL: https://katalog.we-online.com/pbs/datasheet/74437346010.pdf; Published Date: December 2018; Publisher: Wurth Elektronik; Size: 7030; Operating Temperature: -40 to +125 degC; Mounting Technology: SMT; Packaging: Tape and Reel
footprint WE-LHMI_7030
pins: 1, 2

## 74437346015
designator L?, comment 1.5 uH, 7.2 A
SMT Power Inductor WE-LHMI, size 7030, 1.5 uH, 7.2 A; Part Number: 74437346015; Rated Current: 7.2 A; Inductance: 1.5 uH; DC Resistance max.: 15 mOhm; Saturation Current: 19 A; Self Resonant Frequency: 45 MHz; ComponentLink1Description: Manufacturer; ComponentLink1URL: http://www.we-online.de; ComponentLink2Description: Datasheet; ComponentLink2URL: https://katalog.we-online.com/pbs/datasheet/74437346015.pdf; Published Date: December 2018; Publisher: Wurth Elektronik; Size: 7030; Operating Temperature: -40 to +125 degC; Mounting Technology: SMT; Packaging: Tape and Reel
footprint WE-LHMI_7030
pins: 1, 2

## 74437346018
designator L?, comment 1.8 uH, 6.8 A
SMT Power Inductor WE-LHMI, size 7030, 1.8 uH, 6.8 A; Part Number: 74437346018; Rated Current: 6.8 A; Inductance: 1.8 uH; DC Resistance max.: 17 mOhm; Saturation Current: 16.5 A; Self Resonant Frequency: 35 MHz; ComponentLink1Description: Manufacturer; ComponentLink1URL: http://www.we-online.de; ComponentLink2Description: Datasheet; ComponentLink2URL: https://katalog.we-online.com/pbs/datasheet/74437346018.pdf; Published Date: December 2018; Publisher: Wurth Elektronik; Size: 7030; Operating Temperature: -40 to +125 degC; Mounting Technology: SMT; Packaging: Tape and Reel
footprint WE-LHMI_7030
pins: 1, 2

## 74437346022
designator L?, comment 2.2 uH, 6.5 A
SMT Power Inductor WE-LHMI, size 7030, 2.2 uH, 6.5 A; Part Number: 74437346022; Rated Current: 6.5 A; Inductance: 2.2 uH; DC Resistance max.: 20 mOhm; Saturation Current: 15 A; Self Resonant Frequency: 32 MHz; ComponentLink1Description: Manufacturer; ComponentLink1URL: http://www.we-online.de; ComponentLink2Description: Datasheet; ComponentLink2URL: https://katalog.we-online.com/pbs/datasheet/74437346022.pdf; Published Date: December 2018; Publisher: Wurth Elektronik; Size: 7030; Operating Temperature: -40 to +125 degC; Mounting Technology: SMT; Packaging: Tape and Reel
footprint WE-LHMI_7030
pins: 1, 2

## 74437346025
designator L?, comment 2.5 uH, 5.5 A
SMT Power Inductor WE-LHMI, size 7030, 2.5 uH, 5.5 A; Part Number: 74437346025; Rated Current: 5.5 A; Inductance: 2.5 uH; DC Resistance max.: 22 mOhm; Saturation Current: 13 A; Self Resonant Frequency: 30 MHz; ComponentLink1Description: Manufacturer; ComponentLink1URL: http://www.we-online.de; ComponentLink2Description: Datasheet; ComponentLink2URL: https://katalog.we-online.com/pbs/datasheet/74437346025.pdf; Published Date: December 2018; Publisher: Wurth Elektronik; Size: 7030; Operating Temperature: -40 to +125 degC; Mounting Technology: SMT; Packaging: Tape and Reel
footprint WE-LHMI_7030
pins: 1, 2

## 74437346033
designator L?, comment 3.3 uH, 5 A
SMT Power Inductor WE-LHMI, size 7030, 3.3 uH, 5 A; Part Number: 74437346033; Rated Current: 5 A; Inductance: 3.3 uH; DC Resistance max.: 30 mOhm; Saturation Current: 13.5 A; Self Resonant Frequency: 27 MHz; ComponentLink1Description: Manufacturer; ComponentLink1URL: http://www.we-online.de; ComponentLink2Description: Datasheet; ComponentLink2URL: https://katalog.we-online.com/pbs/datasheet/74437346033.pdf; Published Date: December 2018; Publisher: Wurth Elektronik; Size: 7030; Operating Temperature: -40 to +125 degC; Mounting Technology: SMT; Packaging: Tape and Reel
footprint WE-LHMI_7030
pins: 1, 2

## 74437346047
designator L?, comment 4.7 uH, 3.8 A
SMT Power Inductor WE-LHMI, size 7030, 4.7 uH, 3.8 A; Part Number: 74437346047; Rated Current: 3.8 A; Inductance: 4.7 uH; DC Resistance max.: 40 mOhm; Saturation Current: 12 A; Self Resonant Frequency: 22 MHz; ComponentLink1Description: Manufacturer; ComponentLink1URL: http://www.we-online.de; ComponentLink2Description: Datasheet; ComponentLink2URL: https://katalog.we-online.com/pbs/datasheet/74437346047.pdf; Published Date: December 2018; Publisher: Wurth Elektronik; Size: 7030; Operating Temperature: -40 to +125 degC; Mounting Technology: SMT; Packaging: Tape and Reel
footprint WE-LHMI_7030
pins: 1, 2

## 74437346056
designator L?, comment 5.6 uH, 3.6 A
SMT Power Inductor WE-LHMI, size 7030, 5.6 uH, 3.6 A; Part Number: 74437346056; Rated Current: 3.6 A; Inductance: 5.6 uH; DC Resistance max.: 48 mOhm; Saturation Current: 9 A; Self Resonant Frequency: 20 MHz; ComponentLink1Description: Manufacturer; ComponentLink1URL: http://www.we-online.de; ComponentLink2Description: Datasheet; ComponentLink2URL: https://katalog.we-online.com/pbs/datasheet/74437346056.pdf; Published Date: December 2018; Publisher: Wurth Elektronik; Size: 7030; Operating Temperature: -40 to +125 degC; Mounting Technology: SMT; Packaging: Tape and Reel
footprint WE-LHMI_7030
pins: 1, 2

## 74437346068
designator L?, comment 6.8 uH, 3.4 A
SMT Power Inductor WE-LHMI, size 7030, 6.8 uH, 3.4 A; Part Number: 74437346068; Rated Current: 3.4 A; Inductance: 6.8 uH; DC Resistance max.: 60 mOhm; Saturation Current: 8 A; Self Resonant Frequency: 18 MHz; ComponentLink1Description: Manufacturer; ComponentLink1URL: http://www.we-online.de; ComponentLink2Description: Datasheet; ComponentLink2URL: https://katalog.we-online.com/pbs/datasheet/74437346068.pdf; Published Date: December 2018; Publisher: Wurth Elektronik; Size: 7030; Operating Temperature: -40 to +125 degC; Mounting Technology: SMT; Packaging: Tape and Reel
footprint WE-LHMI_7030
pins: 1, 2

## 74437346082
designator L?, comment 8.2 uH, 3.25 A
SMT Power Inductor WE-LHMI, size 7030, 8.2 uH, 3.25 A; Part Number: 74437346082; Rated Current: 3.25 A; Inductance: 8.2 uH; DC Resistance max.: 68 mOhm; Saturation Current: 7.5 A; Self Resonant Frequency: 17 MHz; ComponentLink1Description: Manufacturer; ComponentLink1URL: http://www.we-online.de; ComponentLink2Description: Datasheet; ComponentLink2URL: https://katalog.we-online.com/pbs/datasheet/74437346082.pdf; Published Date: December 2018; Publisher: Wurth Elektronik; Size: 7030; Operating Temperature: -40 to +125 degC; Mounting Technology: SMT; Packaging: Tape and Reel
footprint WE-LHMI_7030
pins: 1, 2

## 74437346100
designator L?, comment 10 uH, 3.0 A
SMT Power Inductor WE-LHMI, size 7030, 10 uH, 3.0 A; Part Number: 74437346100; Rated Current: 3.0 A; Inductance: 10 uH; DC Resistance max.: 85 mOhm; Saturation Current: 7.3 A; Self Resonant Frequency: 15 MHz; ComponentLink1Description: Manufacturer; ComponentLink1URL: http://www.we-online.de; ComponentLink2Description: Datasheet; ComponentLink2URL: https://katalog.we-online.com/pbs/datasheet/74437346100.pdf; Published Date: December 2018; Publisher: Wurth Elektronik; Size: 7030; Operating Temperature: -40 to +125 degC; Mounting Technology: SMT; Packaging: Tape and Reel
footprint WE-LHMI_7030
pins: 1, 2

## 74437346220
designator L?, comment 22 uH, 1.9 A
SMT Power Inductor WE-LHMI, size 7030, 22 uH, 1.9 A; Part Number: 74437346220; Rated Current: 1.9 A; Inductance: 22 uH; DC Resistance max.: 190 mOhm; Saturation Current: 4.5 A; Self Resonant Frequency: 10 MHz; ComponentLink1Description: Manufacturer; ComponentLink1URL: http://www.we-online.de; ComponentLink2Description: Datasheet; ComponentLink2URL: https://katalog.we-online.com/pbs/datasheet/74437346220.pdf; Published Date: December 2018; Publisher: Wurth Elektronik; Size: 7030; Operating Temperature: -40 to +125 degC; Mounting Technology: SMT; Packaging: Tape and Reel
footprint WE-LHMI_7030
pins: 1, 2

## 744373460022
designator L?, comment 0.22 uH, 15 A
SMT Power Inductor WE-LHMI, size 7030, 0.22 uH, 15 A; Part Number: 744373460022; Rated Current: 15 A; Inductance: 0.22 uH; DC Resistance max.: 2.8 mOhm; Saturation Current: 44 A; Self Resonant Frequency: 149 MHz; ComponentLink1Description: Manufacturer; ComponentLink1URL: http://www.we-online.de; ComponentLink2Description: Datasheet; ComponentLink2URL: https://katalog.we-online.com/pbs/datasheet/744373460022.pdf; Published Date: December 2018; Publisher: Wurth Elektronik; Size: 7030; Operating Temperature: -40 to +125 degC; Mounting Technology: SMT; Packaging: Tape and Reel
footprint WE-LHMI_7030
pins: 1, 2

## 744373460033
designator L?, comment 0.33 uH, 13 A
SMT Power Inductor WE-LHMI, size 7030, 0.33 uH, 13 A; Part Number: 744373460033; Rated Current: 13 A; Inductance: 0.33 uH; DC Resistance max.: 3.9 mOhm; Saturation Current: 38 A; Self Resonant Frequency: 124 MHz; ComponentLink1Description: Manufacturer; ComponentLink1URL: http://www.we-online.de; ComponentLink2Description: Datasheet; ComponentLink2URL: https://katalog.we-online.com/pbs/datasheet/744373460033.pdf; Published Date: December 2018; Publisher: Wurth Elektronik; Size: 7030; Operating Temperature: -40 to +125 degC; Mounting Technology: SMT; Packaging: Tape and Reel
footprint WE-LHMI_7030
pins: 1, 2

## 744373460047
designator L?, comment 0.47 uH, 11.5 A
SMT Power Inductor WE-LHMI, size 7030, 0.47 uH, 11.5 A; Part Number: 744373460047; Rated Current: 11.5 A; Inductance: 0.47 uH; DC Resistance max.: 4.2 mOhm; Saturation Current: 31 A; Self Resonant Frequency: 91 MHz; ComponentLink1Description: Manufacturer; ComponentLink1URL: http://www.we-online.de; ComponentLink2Description: Datasheet; ComponentLink2URL: https://katalog.we-online.com/pbs/datasheet/744373460047.pdf; Published Date: December 2018; Publisher: Wurth Elektronik; Size: 7030; Operating Temperature: -40 to +125 degC; Mounting Technology: SMT; Packaging: Tape and Reel
footprint WE-LHMI_7030
pins: 1, 2

## 744373460068
designator L?, comment 0.68 uH, 11 A
SMT Power Inductor WE-LHMI, size 7030, 0.68 uH, 11 A; Part Number: 744373460068; Rated Current: 11 A; Inductance: 0.68 uH; DC Resistance max.: 5.5 mOhm; Saturation Current: 25 A; Self Resonant Frequency: 72 MHz; ComponentLink1Description: Manufacturer; ComponentLink1URL: http://www.we-online.de; ComponentLink2Description: Datasheet; ComponentLink2URL: https://katalog.we-online.com/pbs/datasheet/744373460068.pdf; Published Date: December 2018; Publisher: Wurth Elektronik; Size: 7030; Operating Temperature: -40 to +125 degC; Mounting Technology: SMT; Packaging: Tape and Reel
footprint WE-LHMI_7030
pins: 1, 2

## 744373460082
designator L?, comment 0.82 uH, 9 A
SMT Power Inductor WE-LHMI, size 7030, 0.82 uH, 9 A; Part Number: 744373460082; Rated Current: 9 A; Inductance: 0.82 uH; DC Resistance max.: 8 mOhm; Saturation Current: 24 A; Self Resonant Frequency: 60 MHz; ComponentLink1Description: Manufacturer; ComponentLink1URL: http://www.we-online.de; ComponentLink2Description: Datasheet; ComponentLink2URL: https://katalog.we-online.com/pbs/datasheet/744373460082.pdf; Published Date: December 2018; Publisher: Wurth Elektronik; Size: 7030; Operating Temperature: -40 to +125 degC; Mounting Technology: SMT; Packaging: Tape and Reel
footprint WE-LHMI_7030
pins: 1, 2


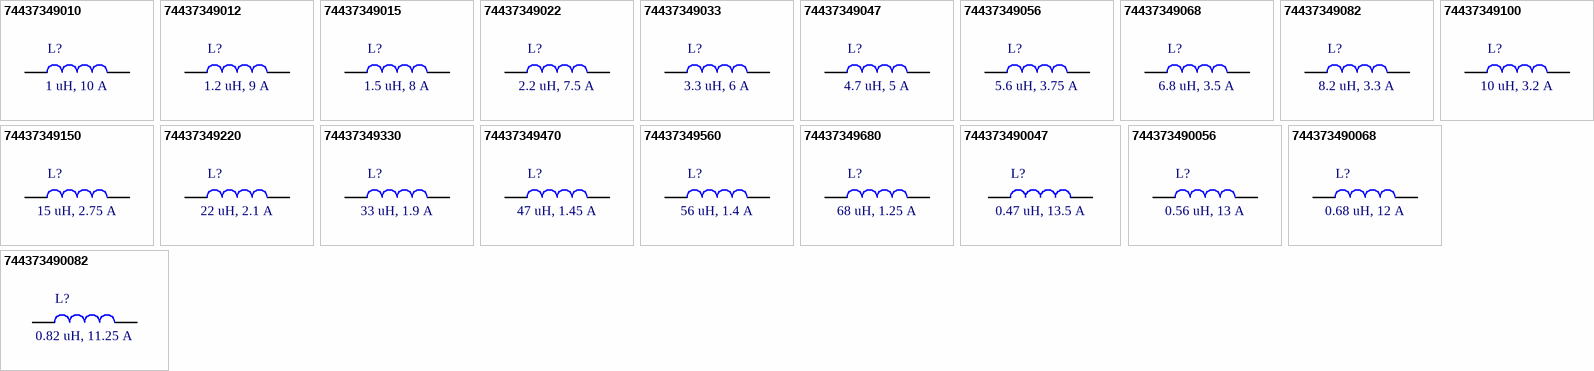
[diagram p5: symbols 74437349010 to 744373490082]

## 74437349010
designator L?, comment 1 uH, 10 A
SMT Power Inductor WE-LHMI, size 7050, 1 uH, 10 A; Part Number: 74437349010; Rated Current: 10 A; Inductance: 1 uH; DC Resistance max.: 6.5 mOhm; Saturation Current: 19.5 A; Self Resonant Frequency: 51 MHz; ComponentLink1Description: Manufacturer; ComponentLink1URL: http://www.we-online.de; ComponentLink2Description: Datasheet; ComponentLink2URL: https://katalog.we-online.com/pbs/datasheet/74437349010.pdf; Published Date: December 2018; Publisher: Wurth Elektronik; Size: 7050; Operating Temperature: -40 to +125 degC; Mounting Technology: SMT; Packaging: Tape and Reel
footprint WE-LHMI_7050
pins: 1, 2

## 74437349012
designator L?, comment 1.2 uH, 9 A
SMT Power Inductor WE-LHMI, size 7050, 1.2 uH, 9 A; Part Number: 74437349012; Rated Current: 9 A; Inductance: 1.2 uH; DC Resistance max.: 7.5 mOhm; Saturation Current: 18 A; Self Resonant Frequency: 45 MHz; ComponentLink1Description: Manufacturer; ComponentLink1URL: http://www.we-online.de; ComponentLink2Description: Datasheet; ComponentLink2URL: https://katalog.we-online.com/pbs/datasheet/74437349012.pdf; Published Date: December 2018; Publisher: Wurth Elektronik; Size: 7050; Operating Temperature: -40 to +125 degC; Mounting Technology: SMT; Packaging: Tape and Reel
footprint WE-LHMI_7050
pins: 1, 2